# Altium footprint library resistors.PcbLib: 5 footprints
Each footprint in its own frame and in the unit in brackets; x right, y up, seen from the top. Pads: shape width x height; smd on the part's side, far side on the other; paste and mask are expansions set on the pad; w line width, h text height; cw(c..) or ccw(c..) is an arc to the next point about the centre after c.
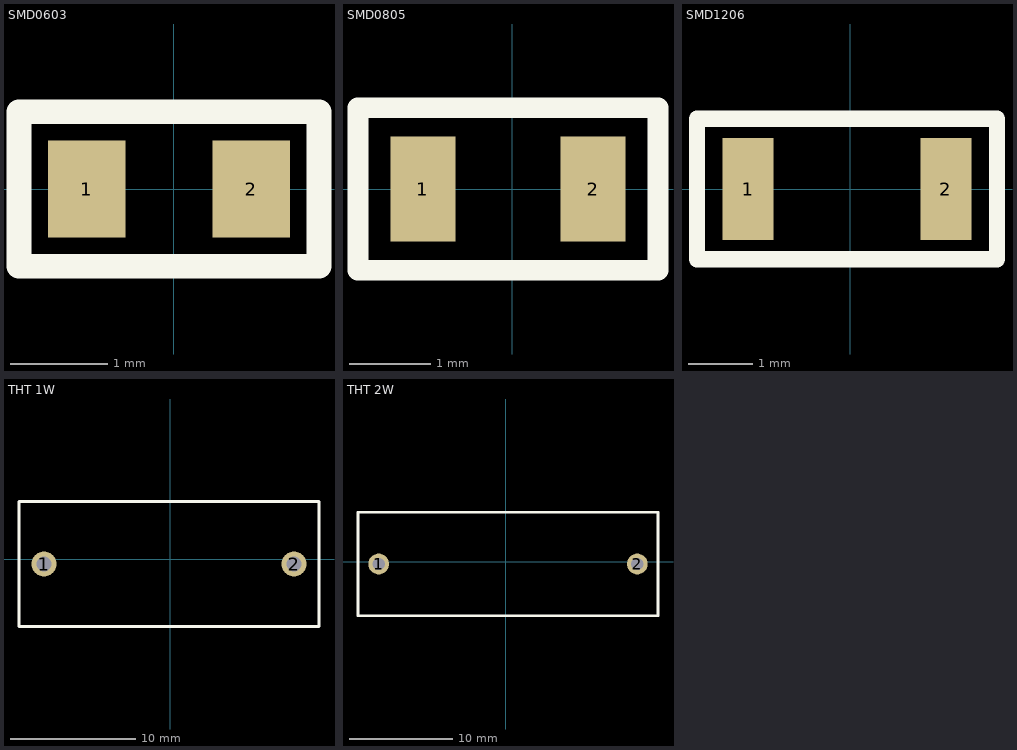
[diagram p0: the footprints below, top view; thin cyan lines are the x and y axes]

## SMD0603 [mm] "0.125W"
height 0.5
pads (2):
  rect 0.8x1 smd: 1(-0.9,0) 2(0.8,0)
Top Overlay:
  lines w0.254: -1.6,-0.8 1.5,-0.8 1.5,0.8 -1.6,0.8 -1.6,-0.8

## SMD0805 [mm] "0.125W"
height 0.6
pads (2):
  rect 0.8x1.3 smd: 1(-1.1,0) 2(1,0)
Top Overlay:
  lines w0.254: -1.9,-1 -1.9,1 1.8,1 1.8,-1 -1.9,-1

## SMD1206 [mm] "0.25W"
height 0.6
pads (2):
  rect 0.8x1.6 smd: 1(-1.6,0) 2(1.5,0)
Top Overlay:
  lines w0.254: -2.4,-1.1 2.3,-1.1 2.3,1.1 -2.4,1.1 -2.4,-1.1

## THT 1W [mm] "Horizontal mounting"
height 6
pads (2):
  round 2 hole 1.2: 1(-10.1,-0.4) 2(9.9,-0.4)
Top Overlay:
  lines w0.254: -12.1,-5.4 11.9,-5.4 11.9,4.6 -12.1,4.6 -12.1,-5.4

## THT 2W [mm] "Horizontal mounting"
height 9
pads (2):
  round 2 hole 1.2: 1(-12.3,-0.2) 2(12.7,-0.2)
Top Overlay:
  lines w0.254: -14.3,-5.2 14.7,-5.2 14.7,4.8 -14.3,4.8 -14.3,-5.2